# Altium footprint library 87233-3.PcbLib: 1 footprints
Each footprint in its own frame and in the unit in brackets; x right, y up, seen from the top. Pads: shape width x height; smd on the part's side, far side on the other; paste and mask are expansions set on the pad; w line width, h text height; cw(c..) or ccw(c..) is an arc to the next point about the centre after c.
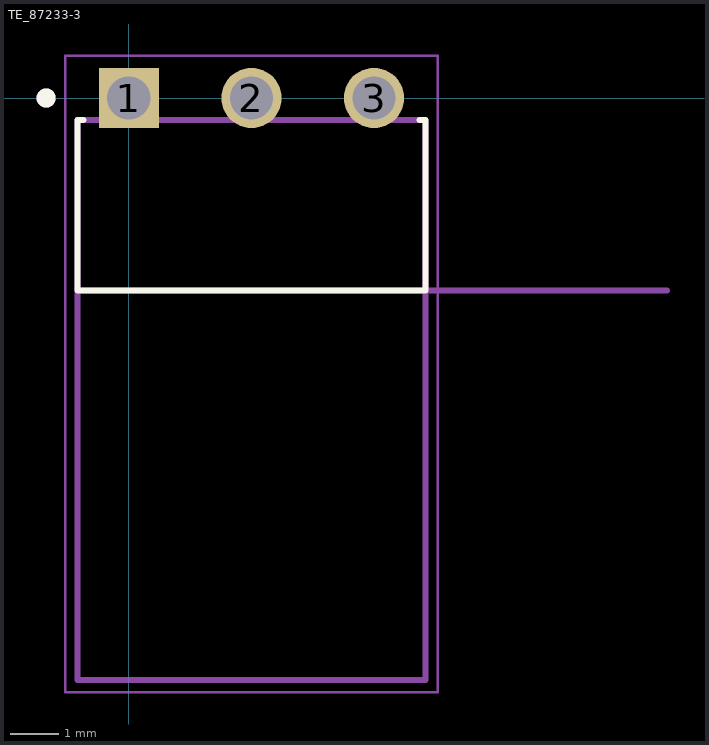
[diagram p0: the footprint, top view; thin cyan lines are the x and y axes]

## TE_87233-3 [mm]
pads (3):
  rect 1.25x1.25 hole 0.9: 1(0,0)
  round 1.25 hole 0.9: 2(2.54,0) 3(5.08,0)
Top Overlay:
  circle w0.2: c-1.717,0 r0.1
  lines w0.127: -0.945,-0.457 -1.067,-0.457 -1.067,-3.988 6.147,-3.988 6.147,-0.457 6.025,-0.457
Mechanical 13:
  circle w0.2: c-1.717,0 r0.1
  lines w0.127: 11.147,-3.988 6.147,-3.988 ; -1.067,-3.988 -1.067,-12.065 6.147,-12.065 6.147,-3.988 ; -1.067,-3.988 6.147,-3.988 ; -1.067,-3.988 -1.067,-0.457 6.147,-0.457 6.147,-3.988
  text "PCB Edge" at 6.647,-3.488 h1
Mechanical 15:
  lines w0.05: -1.317,-12.315 6.397,-12.315 6.397,0.875 -1.317,0.875 -1.317,-12.315
3D body "step_temp.STEP": height 1.75, standoff -4.55, extent -3.607,-8.077 3.607,4.305